# EAGLE library part STM32F100C8 (library audioint)
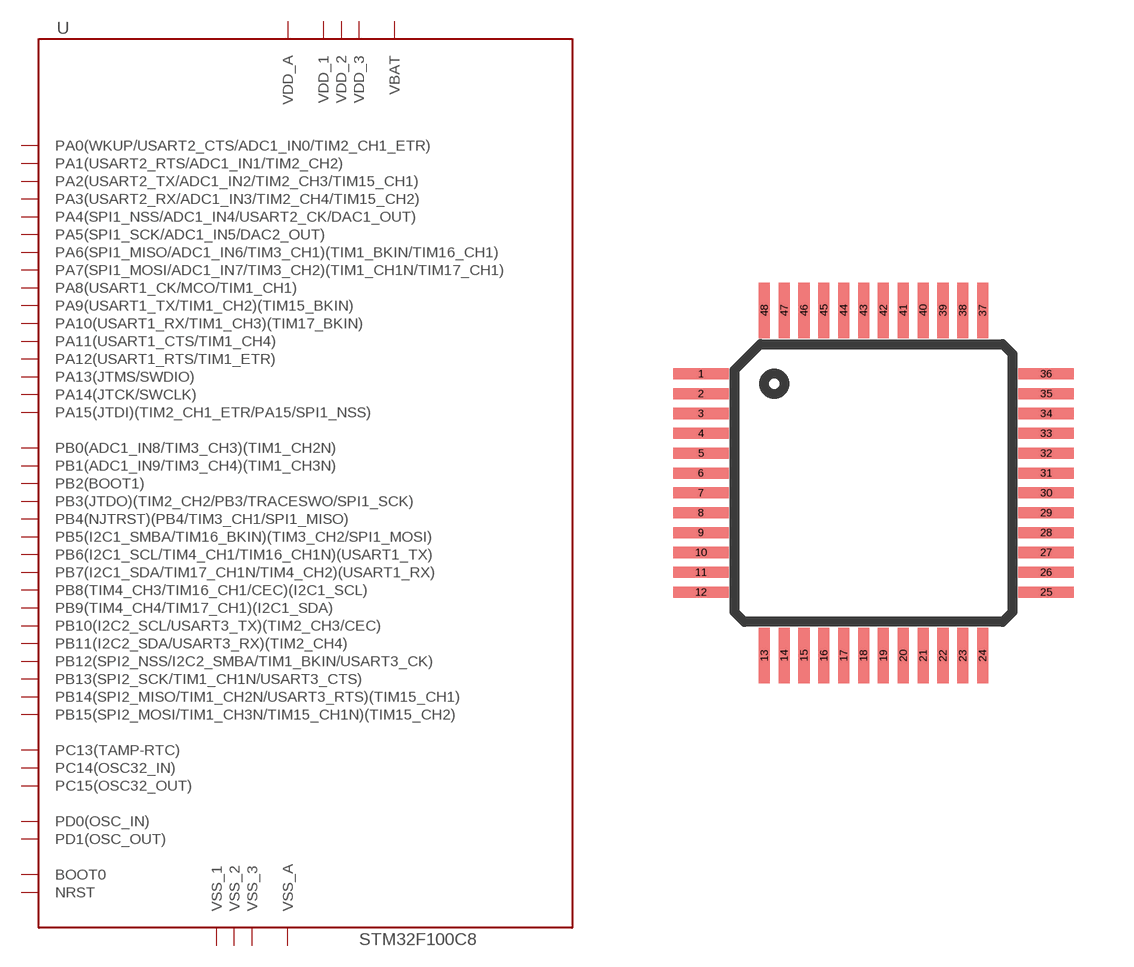
[diagram p16: symbol with the pads of 48-LQFP; footprint 48-LQFP]

Designator prefix -

## STM32F100C848-LQFP  [48-LQFP]
1  VBAT
2  PC13(TAMP-RTC)
3  PC14(OSC32_IN)
4  PC15(OSC32_OUT)
5  PD0(OSC_IN)
6  PD1(OSC_OUT)
7  NRST
8  VSS_A
9  VDD_A
10  PA0(WKUP/USART2_CTS/ADC1_IN0/TIM2_CH1_ETR)
11  PA1(USART2_RTS/ADC1_IN1/TIM2_CH2)
12  PA2(USART2_TX/ADC1_IN2/TIM2_CH3/TIM15_CH1)
13  PA3(USART2_RX/ADC1_IN3/TIM2_CH4/TIM15_CH2)
14  PA4(SPI1_NSS/ADC1_IN4/USART2_CK/DAC1_OUT)
15  PA5(SPI1_SCK/ADC1_IN5/DAC2_OUT)
16  PA6(SPI1_MISO/ADC1_IN6/TIM3_CH1)(TIM1_BKIN/TIM16_CH1)
17  PA7(SPI1_MOSI/ADC1_IN7/TIM3_CH2)(TIM1_CH1N/TIM17_CH1)
18  PB0(ADC1_IN8/TIM3_CH3)(TIM1_CH2N)
19  PB1(ADC1_IN9/TIM3_CH4)(TIM1_CH3N)
20  PB2(BOOT1)
21  PB10(I2C2_SCL/USART3_TX)(TIM2_CH3/CEC)
22  PB11(I2C2_SDA/USART3_RX)(TIM2_CH4)
23  VSS_1
24  VDD_1
25  PB12(SPI2_NSS/I2C2_SMBA/TIM1_BKIN/USART3_CK)
26  PB13(SPI2_SCK/TIM1_CH1N/USART3_CTS)
27  PB14(SPI2_MISO/TIM1_CH2N/USART3_RTS)(TIM15_CH1)
28  PB15(SPI2_MOSI/TIM1_CH3N/TIM15_CH1N)(TIM15_CH2)
29  PA8(USART1_CK/MCO/TIM1_CH1)
30  PA9(USART1_TX/TIM1_CH2)(TIM15_BKIN)
31  PA10(USART1_RX/TIM1_CH3)(TIM17_BKIN)
32  PA11(USART1_CTS/TIM1_CH4)
33  PA12(USART1_RTS/TIM1_ETR)
34  PA13(JTMS/SWDIO)
35  VSS_2
36  VDD_2
37  PA14(JTCK/SWCLK)
38  PA15(JTDI)(TIM2_CH1_ETR/PA15/SPI1_NSS)
39  PB3(JTDO)(TIM2_CH2/PB3/TRACESWO/SPI1_SCK)
40  PB4(NJTRST)(PB4/TIM3_CH1/SPI1_MISO)
41  PB5(I2C1_SMBA/TIM16_BKIN)(TIM3_CH2/SPI1_MOSI)
42  PB6(I2C1_SCL/TIM4_CH1/TIM16_CH1N)(USART1_TX)
43  PB7(I2C1_SDA/TIM17_CH1N/TIM4_CH2)(USART1_RX)
44  BOOT0
45  PB8(TIM4_CH3/TIM16_CH1/CEC)(I2C1_SCL)
46  PB9(TIM4_CH4/TIM17_CH1)(I2C1_SDA)
47  VSS_3
48  VDD_3

## Footprint 48-LQFP (pad centres in mm)
smd 1.4 x 0.28: 1 -4.35,2.75; 2 -4.35,2.25; 3 -4.35,1.75; 4 -4.35,1.25; 5 -4.35,0.75; 6 -4.35,0.25; 7 -4.35,-0.25; 8 -4.35,-0.75; 9 -4.35,-1.25; 10 -4.35,-1.75; 11 -4.35,-2.25; 12 -4.35,-2.75; 25 4.35,-2.75; 26 4.35,-2.25; 27 4.35,-1.75; 28 4.35,-1.25; 29 4.35,-0.75; 30 4.35,-0.25; 31 4.35,0.25; 32 4.35,0.75; 33 4.35,1.25; 34 4.35,1.75; 35 4.35,2.25; 36 4.35,2.75
smd 0.28 x 1.4: 13 -2.75,-4.35; 14 -2.25,-4.35; 15 -1.75,-4.35; 16 -1.25,-4.35; 17 -0.75,-4.35; 18 -0.25,-4.35; 19 0.25,-4.35; 20 0.75,-4.35; 21 1.25,-4.35; 22 1.75,-4.35; 23 2.25,-4.35; 24 2.75,-4.35; 37 2.75,4.35; 38 2.25,4.35; 39 1.75,4.35; 40 1.25,4.35; 41 0.75,4.35; 42 0.25,4.35; 43 -0.25,4.35; 44 -0.75,4.35; 45 -1.25,4.35; 46 -1.75,4.35; 47 -2.25,4.35; 48 -2.75,4.35